# Altium footprint library Drosel.PcbLib: 92 footprints (part 2 of 6)
Each footprint in its own frame and in the unit in brackets; x right, y up, seen from the top. Pads: shape width x height; smd on the part's side, far side on the other; paste and mask are expansions set on the pad; w line width, h text height; cw(c..) or ccw(c..) is an arc to the next point about the centre after c.
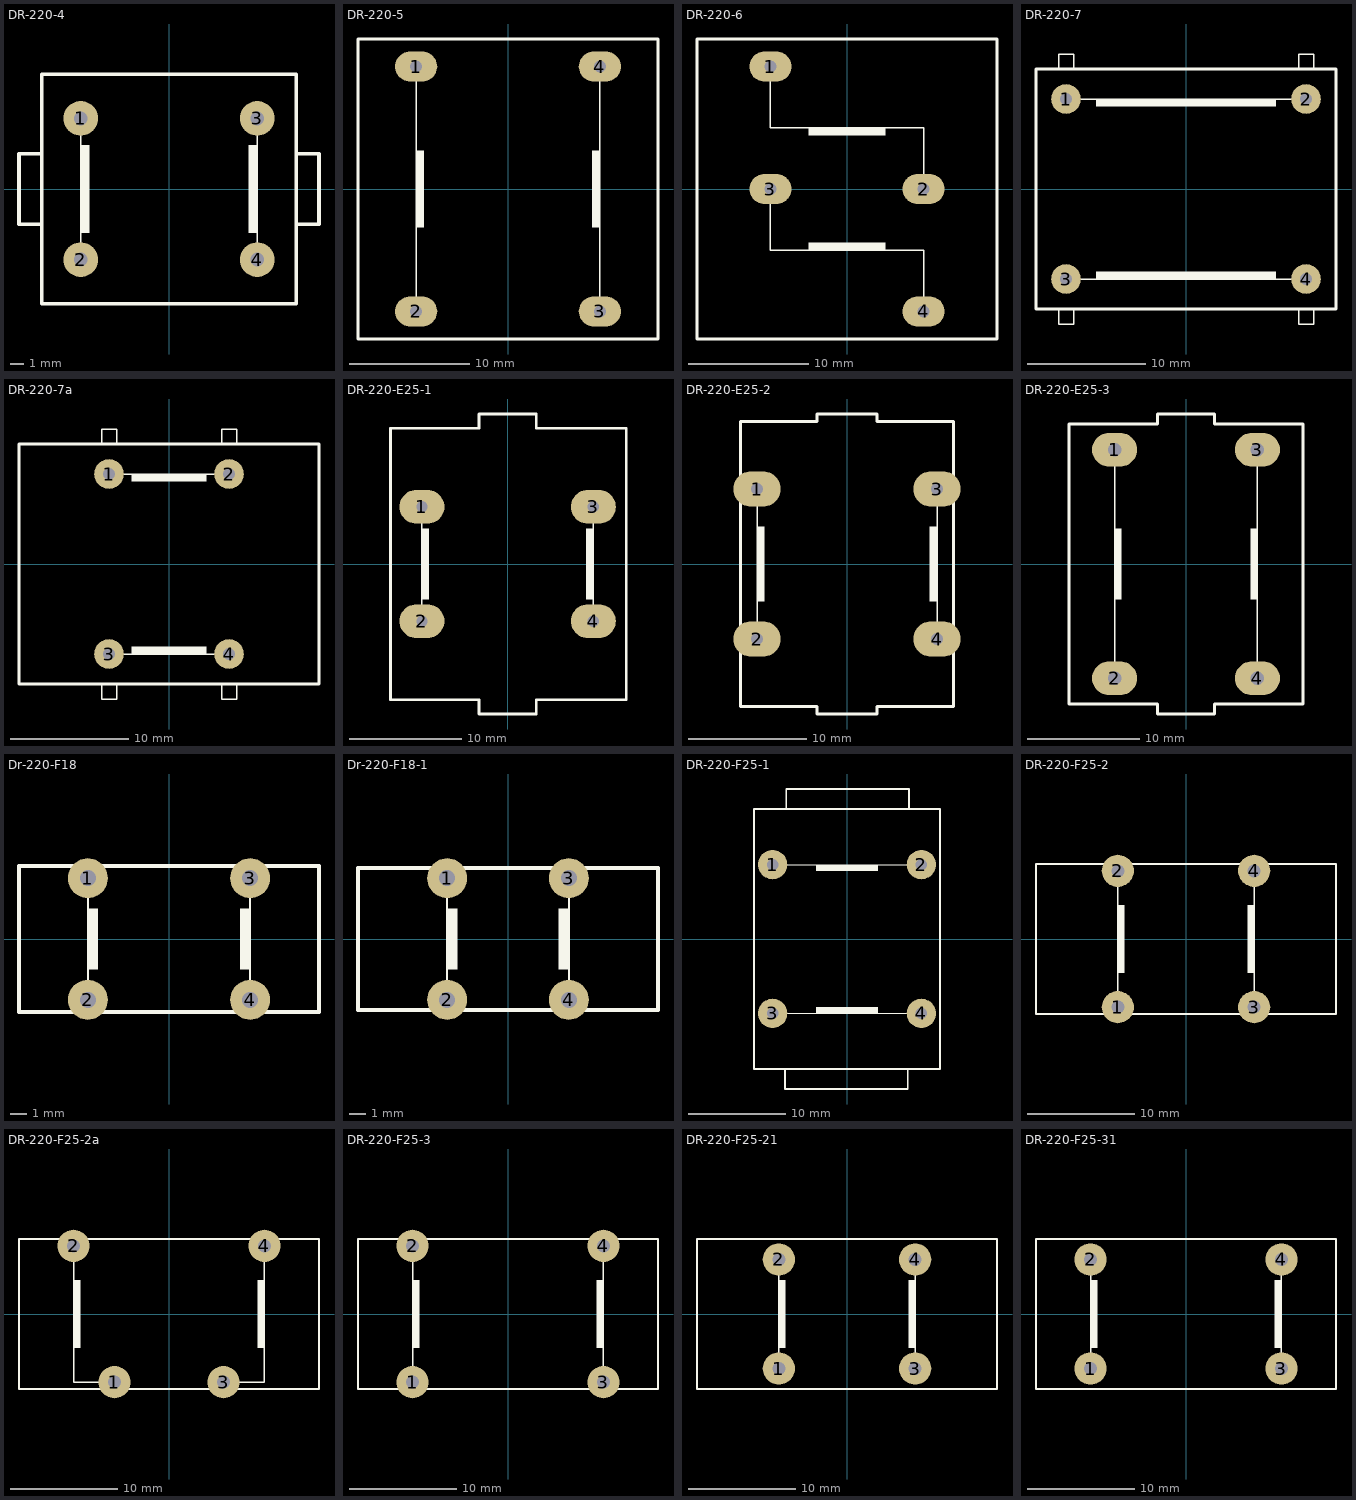
[diagram p1: the footprints below, top view; thin cyan lines are the x and y axes]

## DR-220-4 [mm]
pads (4):
  round 2.5 hole 1: 1(-6.35,5.08) 2(-6.35,-5.08) 3(6.35,5.08) 4(6.35,-5.08)
Top Overlay:
  region: 5.715,3.175 5.715,-3.175 6.35,-3.175 6.35,3.175
  region: -5.715,-3.175 -5.715,3.175 -6.35,3.175 -6.35,-3.175
  lines w0.127: -6.35,-5.08 -6.35,5.08 ; 6.35,-5.08 6.35,5.08
  lines w0.254: -9.144,-2.54 -10.795,-2.54 -10.795,2.54 ; -9.144,2.54 -10.795,2.54 ; 9.144,-2.54 10.795,-2.54 10.795,2.54 9.144,2.54 ; -10.795,2.54 -10.16,2.54 -10.795,2.54 ; -9.144,-8.255 -9.144,8.255 9.144,8.255 9.144,-8.255 -9.144,-8.255

## DR-220-5 [mm]
pads (4):
  oval 3.5x2.5 hole 1: 1(-7.62,10.16) 2(-7.62,-10.16) 3(7.62,-10.16) 4(7.62,10.16)
Top Overlay:
  region: -6.985,-3.175 -6.985,3.175 -7.62,3.175 -7.62,-3.175
  region: 6.985,3.175 6.985,-3.175 7.62,-3.175 7.62,3.175
  lines w0.127: -7.62,-10.16 -7.62,10.16 ; 7.62,-10.16 7.62,10.16
  lines w0.254: -12.446,-12.446 -12.446,12.446 12.446,12.446 12.446,-12.446 -12.446,-12.446

## DR-220-6 [mm]
pads (4):
  oval 3.5x2.5 hole 1: 1(-6.35,10.16) 2(6.35,0) 3(-6.35,0) 4(6.35,-10.16)
Top Overlay:
  rectangle: -3.175,4.445 3.175,5.08
  region: 3.175,-4.445 -3.175,-4.445 -3.175,-5.08 3.175,-5.08
  lines w0.127: -6.35,0 -6.35,-5.08 -5.08,-5.08 5.08,-5.08 6.35,-5.08 6.35,-10.16 ; -6.35,10.16 -6.35,5.08 -5.08,5.08 5.08,5.08 6.35,5.08 6.35,0
  lines w0.254: -12.446,-12.446 12.446,-12.446 12.446,12.446 -12.446,12.446 -12.446,-12.446

## DR-220-7 [mm]
pads (4):
  round 2.5 hole 1: 1(-10.16,7.62) 2(10.16,7.62) 3(-10.16,-7.62) 4(10.16,-7.62)
Top Overlay:
  rectangle: -7.62,6.985 7.62,7.62
  rectangle: -7.62,-7.62 7.62,-6.985
  lines w0.127: -10.795,-10.16 -10.795,-11.43 -9.525,-11.43 -9.525,-10.16 ; -10.795,10.16 -10.795,11.43 -9.525,11.43 -9.525,10.16 ; -10.16,-7.62 10.16,-7.62 ; -10.16,7.62 10.16,7.62 ; 9.525,-10.16 9.525,-11.43 10.795,-11.43 10.795,-10.16 ; 9.525,10.16 9.525,11.43 10.795,11.43 10.795,10.16
  lines w0.254: -12.7,-10.16 -12.7,10.16 12.7,10.16 12.7,-10.16 -12.7,-10.16

## DR-220-7a [mm]
pads (4):
  round 2.5 hole 1: 1(-5.08,7.62) 2(5.08,7.62) 3(-5.08,-7.62) 4(5.08,-7.62)
Top Overlay:
  rectangle: -3.175,6.985 3.175,7.62
  rectangle: -3.175,-7.62 3.175,-6.985
  lines w0.127: -5.715,-10.16 -5.715,-11.43 -4.445,-11.43 -4.445,-10.16 ; -5.715,10.16 -5.715,11.43 -4.445,11.43 -4.445,10.16 ; -5.08,-7.62 5.08,-7.62 ; -5.08,7.62 5.08,7.62 ; 4.445,-10.16 4.445,-11.43 5.715,-11.43 5.715,-10.16 ; 4.445,10.16 4.445,11.43 5.715,11.43 5.715,10.16
  lines w0.254: -12.7,-10.16 -12.7,10.16 12.7,10.16 12.7,-10.16 -12.7,-10.16

## DR-220-E25-1 [mm]
pads (4):
  oval 4x3 hole 1: 1(-7.62,5.08) 2(-7.62,-5.08) 3(7.62,5.08) 4(7.62,-5.08)
Top Overlay:
  region: 6.985,3.175 6.985,-3.175 7.62,-3.175 7.62,3.175
  region: -6.985,-3.175 -6.985,3.175 -7.62,3.175 -7.62,-3.175
  lines w0.127: -7.62,-5.08 -7.62,5.08 ; 7.62,-5.08 7.62,5.08
  lines w0.254: -10.414,-12.065 -2.54,-12.065 -2.54,-13.335 2.54,-13.335 2.54,-12.065 10.541,-12.065 10.541,12.065 2.54,12.065 2.54,12.7 2.54,13.335 -2.54,13.335 -2.54,12.065 -10.414,12.065 -10.414,-12.065

## DR-220-E25-2 [mm]
pads (4):
  oval 4x3 hole 1: 1(-7.62,6.35) 2(-7.62,-6.35) 3(7.62,6.35) 4(7.62,-6.35)
Top Overlay:
  region: -6.985,-3.175 -6.985,3.175 -7.62,3.175 -7.62,-3.175
  region: 6.985,3.175 6.985,-3.175 7.62,-3.175 7.62,3.175
  lines w0.127: -7.62,-6.35 -7.62,6.35 ; 7.62,-6.35 7.62,6.35
  lines w0.254: -9.017,-12.065 -9.017,12.065 -2.54,12.065 -2.54,12.7 2.54,12.7 2.54,12.065 9.017,12.065 9.017,-12.065 2.54,-12.065 2.54,-12.7 -2.54,-12.7 -2.54,-12.065 -9.017,-12.065

## DR-220-E25-3 [mm]
pads (4):
  oval 4x3 hole 1.2: 1(-6.35,10.16) 2(-6.35,-10.16) 3(6.35,10.16) 4(6.35,-10.16)
Top Overlay:
  region: -5.715,-3.175 -5.715,3.175 -6.35,3.175 -6.35,-3.175
  region: 5.715,3.175 5.715,-3.175 6.35,-3.175 6.35,3.175
  lines w0.127: -6.35,-10.16 -6.35,10.16 ; 6.35,-10.16 6.35,10.16
  lines w0.254: -10.414,-12.446 -2.54,-12.446 -2.54,-13.335 2.54,-13.335 2.54,-12.446 10.414,-12.446 10.414,12.446 2.54,12.446 2.54,13.335 -2.54,13.335 -2.54,12.446 -10.414,12.446 -10.414,-12.446

## Dr-220-F18 [mm]
pads (4):
  round 2.5 hole 1: 1(-5.08,3.81) 2(-5.08,-3.81) 3(5.08,3.81) 4(5.08,-3.81)
Top Overlay:
  region: 4.445,1.905 4.445,-1.905 5.08,-1.905 5.08,1.905
  region: -4.445,-1.905 -4.445,1.905 -5.08,1.905 -5.08,-1.905
  lines w0.127: -5.08,-3.81 -5.08,3.81 ; 5.08,-3.81 5.08,3.81
  lines w0.254: -9.398,-4.572 9.398,-4.572 9.398,4.572 -9.398,4.572 -9.398,-4.572

## Dr-220-F18-1 [mm]
pads (4):
  round 2.5 hole 1: 1(-3.81,3.81) 2(-3.81,-3.81) 3(3.81,3.81) 4(3.81,-3.81)
Top Overlay:
  region: -3.175,-1.905 -3.175,1.905 -3.81,1.905 -3.81,-1.905
  region: 3.175,1.905 3.175,-1.905 3.81,-1.905 3.81,1.905
  lines w0.127: -3.81,-3.81 -3.81,3.81 ; 3.81,-3.81 3.81,3.81
  lines w0.254: -9.398,-4.445 -9.398,4.445 9.398,4.445 9.398,-4.445 -9.398,-4.445

## DR-220-F25-1 [mm]
pads (4):
  round 3 hole 1.2: 1(-7.62,7.62) 2(7.62,7.62) 3(-7.62,-7.62) 4(7.62,-7.62)
Top Overlay:
  rectangle: -3.175,-7.62 3.175,-6.985
  rectangle: -3.175,6.985 3.175,7.62
  lines w0.127: -7.62,-7.62 7.62,-7.62 ; -7.62,7.62 7.62,7.62
  lines w0.2: -6.35,-13.335 -6.35,-15.367 6.223,-15.367 6.223,-13.335 ; -6.223,13.335 -6.223,15.367 6.35,15.367 6.35,13.335 ; -9.525,-13.335 -9.525,13.335 9.525,13.335 9.525,-13.335 -9.525,-13.335

## DR-220-F25-2 [mm]
pads (4):
  round 3 hole 1.2: 1(-6.35,-6.35) 2(-6.35,6.35) 3(6.35,-6.35) 4(6.35,6.35)
Top Overlay:
  region: -5.715,-3.175 -5.715,3.175 -6.35,3.175 -6.35,-3.175
  region: 5.715,3.175 5.715,-3.175 6.35,-3.175 6.35,3.175
  lines w0.127: -6.35,-6.35 -6.35,6.35 ; 6.35,-6.35 6.35,6.35
  lines w0.2: -13.97,-6.985 -13.97,6.985 13.97,6.985 13.97,-6.985 -13.97,-6.985

## DR-220-F25-2a [mm]
pads (4):
  round 3 hole 1.2: 1(-5.08,-6.35) 2(-8.89,6.35) 3(5.08,-6.35) 4(8.89,6.35)
Top Overlay:
  region: -8.255,-3.175 -8.255,3.175 -8.89,3.175 -8.89,-3.175
  region: 8.255,3.175 8.255,-3.175 8.89,-3.175 8.89,3.175
  lines w0.127: -8.89,6.35 -8.89,-6.35 -5.08,-6.35 ; 5.08,-6.35 8.89,-6.35 8.89,6.35
  lines w0.2: -13.97,-6.985 -13.97,6.985 13.97,6.985 13.97,-6.985 -13.97,-6.985

## DR-220-F25-3 [mm]
pads (4):
  round 3 hole 1.2: 1(-8.89,-6.35) 2(-8.89,6.35) 3(8.89,-6.35) 4(8.89,6.35)
Top Overlay:
  region: 8.255,3.175 8.255,-3.175 8.89,-3.175 8.89,3.175
  region: -8.255,-3.175 -8.255,3.175 -8.89,3.175 -8.89,-3.175
  lines w0.127: -8.89,-6.35 -8.89,6.35 ; 8.89,-6.35 8.89,6.35
  lines w0.2: -13.97,-6.985 13.97,-6.985 13.97,6.985 -13.97,6.985 -13.97,-6.985
3D body: height 25, standoff 0, extent -13.97,-7.881 13.97,7.881

## DR-220-F25-21 [mm]
pads (4):
  round 3 hole 1.2: 1(-6.35,-5.08) 2(-6.35,5.08) 3(6.35,-5.08) 4(6.35,5.08)
Top Overlay:
  region: 5.715,3.175 5.715,-3.175 6.35,-3.175 6.35,3.175
  region: -5.715,-3.175 -5.715,3.175 -6.35,3.175 -6.35,-3.175
  lines w0.127: -6.35,-5.08 -6.35,5.08 ; 6.35,-5.08 6.35,5.08
  lines w0.2: -13.97,-6.985 13.97,-6.985 13.97,6.985 -13.97,6.985 -13.97,-6.985

## DR-220-F25-31 [mm]
pads (4):
  round 3 hole 1.2: 1(-8.89,-5.08) 2(-8.89,5.08) 3(8.89,-5.08) 4(8.89,5.08)
Top Overlay:
  region: -8.255,-3.175 -8.255,3.175 -8.89,3.175 -8.89,-3.175
  region: 8.255,3.175 8.255,-3.175 8.89,-3.175 8.89,3.175
  lines w0.127: -8.89,-5.08 -8.89,5.08 ; 8.89,-5.08 8.89,5.08
  lines w0.2: -13.97,-6.985 -13.97,6.985 13.97,6.985 13.97,-6.985 -13.97,-6.985